# EAGLE library part CD4017BM96 (library CD4017BM96)
CMOS Decade Counter with 10 Decoded Outputs 16-SOIC -55 to 125
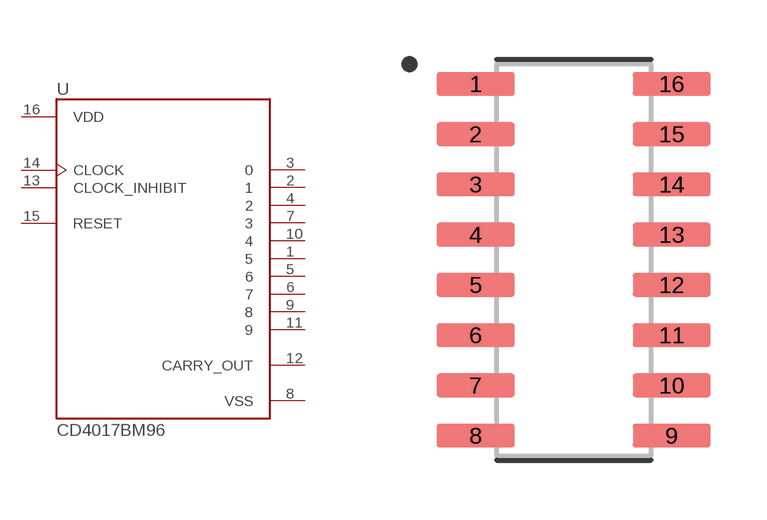
[diagram p0: symbol with the pads of SOIC127P600X175-16N; footprint SOIC127P600X175-16N]

Designator prefix U

## CD4017BM96 (MANUFACTURER: Texas Instruments; MAXIMUM_PACKAGE_HEIGHT: 1.75mm; PARTREV: Feb 2004; STANDARD: IPC-7351B)  [SOIC127P600X175-16N]
1  5  out
2  1  out
3  0  out
4  2  out
5  6  out
6  7  out
7  3  out
8  VSS  pwr
9  8  out
10  4  out
11  9  out
12  CARRY_OUT  out
13  CLOCK_INHIBIT  in
14  CLOCK  in
15  RESET  in
16  VDD  pwr

## Footprint SOIC127P600X175-16N (pad centres in mm)
smd 1.97 x 0.6: 1 -2.475,4.445; 2 -2.475,3.175; 3 -2.475,1.905; 4 -2.475,0.635; 5 -2.475,-0.635; 6 -2.475,-1.905; 7 -2.475,-3.175; 8 -2.475,-4.445; 9 2.475,-4.445; 10 2.475,-3.175; 11 2.475,-1.905; 12 2.475,-0.635; 13 2.475,0.635; 14 2.475,1.905; 15 2.475,3.175; 16 2.475,4.445